# EAGLE library part AUX (library OctoGames)
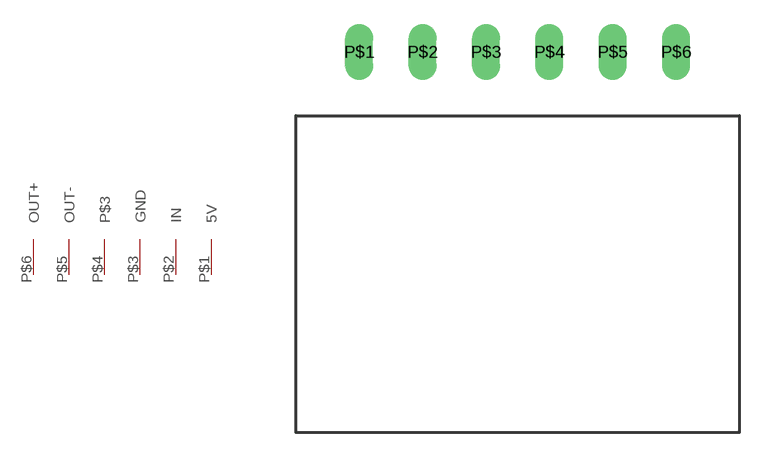
[diagram p1: symbol with the pads of AUX; footprint AUX]

Designator prefix AUX

## AUX  [AUX]
P$1  5V
P$2  IN
P$3  GND
P$4  P$3
P$5  OUT-
P$6  OUT+

## Footprint AUX (pad centres in mm)
drill 0.6 long: P$1 -10,2.5; P$2 -7.5,2.5; P$3 -5,2.5; P$4 -2.5,2.5; P$5 0,2.5; P$6 2.5,2.5